# EAGLE library part FCI-87849-120LF (library FCI_87849-120LF)
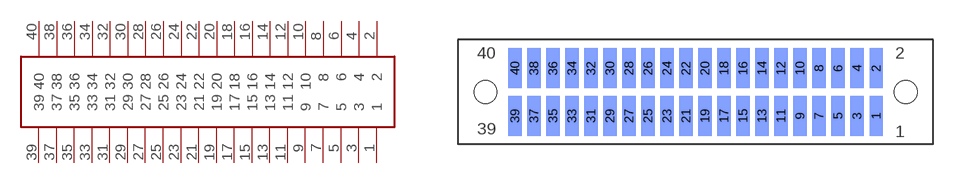
[diagram p0: symbol with the pads of FCI-87849-120LF-PAC; footprint FCI-87849-120LF-PAC]

Designator prefix -

## FCI-87849-120LF  [FCI-87849-120LF-PAC]
1  1
2  2
3  3
4  4
5  5
6  6
7  7
8  8
9  9
10  10
11  11
12  12
13  13
14  14
15  15
16  16
17  17
18  18
19  19
20  20
21  21
22  22
23  23
24  24
25  25
26  26
27  27
28  28
29  29
30  30
31  31
32  32
33  33
34  34
35  35
36  36
37  37
38  38
39  39
40  40

## Footprint FCI-87849-120LF-PAC (pad centres in mm)
smd 0.89 x 2.67 bottom: 1 24.14,-3.19; 2 24.14,0; 3 22.86,-3.19; 4 22.86,0; 5 21.59,-3.19; 6 21.59,0; 7 20.32,-3.19; 8 20.32,0; 9 19.05,-3.19; 10 19.05,0; 11 17.78,-3.19; 12 17.78,0; 13 16.51,-3.19; 14 16.51,0; 15 15.24,-3.19; 16 15.24,0; 17 13.97,-3.19; 18 13.97,0; 19 12.7,-3.19; 20 12.7,0; 21 11.43,-3.19; 22 11.43,0; 23 10.16,-3.19; 24 10.16,0; 25 8.89,-3.19; 26 8.89,0; 27 7.62,-3.19; 28 7.62,0; 29 6.35,-3.19; 30 6.35,0; 31 5.08,-3.19; 32 5.08,0; 33 3.81,-3.19; 34 3.81,0; 35 2.54,-3.19; 36 2.54,0; 37 1.27,-3.19; 38 1.27,0; 39 0,-3.19; 40 0,0
hole 1.524 at -1.975,-1.6
hole 1.524 at 26.125,-1.6